# EAGLE library part CLP-107-XX-X-DH-XX (library con-samtec-clp)
RECEPTACAL
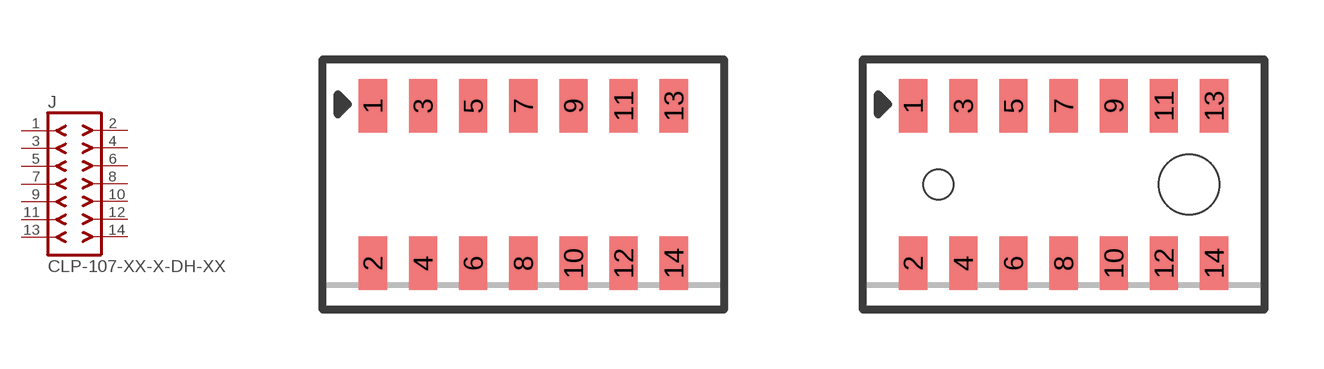
[diagram p3: symbol with the pads of CLP-107-XX-X-DH; footprints CLP-107-XX-X-DH, CLP-107-XX-X-DH-A]

Designator prefix J

## CLP-107-XX-X-DH-XX  [CLP-107-XX-X-DH]
1  1  pas
2  2  pas
3  3  pas
4  4  pas
5  5  pas
6  6  pas
7  7  pas
8  8  pas
9  9  pas
10  10  pas
11  11  pas
12  12  pas
13  13  pas
14  14  pas

## CLP-107-XX-X-DH-XXA  [CLP-107-XX-X-DH-A]
Pads as for CLP-107-XX-X-DH

## Footprint CLP-107-XX-X-DH (pad centres in mm)
RECEPTACAL
smd 0.711 x 1.346: 1 -3.81,1.994; 2 -3.81,-1.994; 3 -2.54,1.994; 4 -2.54,-1.994; 5 -1.27,1.994; 6 -1.27,-1.994; 7 0,1.994; 8 0,-1.994; 9 1.27,1.994; 10 1.27,-1.994; 11 2.54,1.994; 12 2.54,-1.994; 13 3.81,1.994; 14 3.81,-1.994

## Footprint CLP-107-XX-X-DH-A (pad centres in mm)
RECEPTACAL
smd 0.711 x 1.346: 1 -3.81,1.994; 2 -3.81,-1.994; 3 -2.54,1.994; 4 -2.54,-1.994; 5 -1.27,1.994; 6 -1.27,-1.994; 7 0,1.994; 8 0,-1.994; 9 1.27,1.994; 10 1.27,-1.994; 11 2.54,1.994; 12 2.54,-1.994; 13 3.81,1.994; 14 3.81,-1.994
hole 0.762 at -3.175,0
hole 1.524 at 3.175,0